# Altium schematic symbol library VNH5019A-E.SchLib: 1 symbol
Pins are listed as number, name and electrical type; pins without a type are passive.

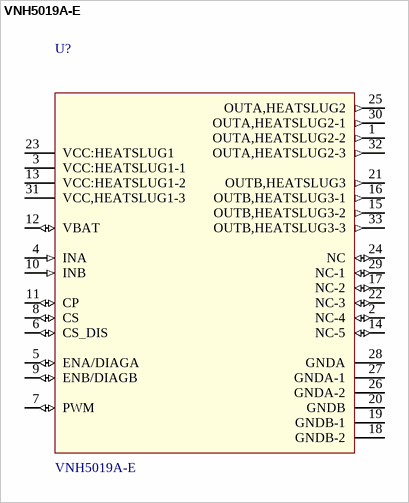
[diagram p0: symbol VNH5019A-E]

## VNH5019A-E
designator U?
VNH5019A Series 24 V 30 A Fully Integrated H-Bridge Motor Driver-MultiPowerSO-30; MF: STMicroelectronics; Package: SOP-30 STMicroelectronics; Price: None; Availability: Unavailable; MP: VNH5019A-E; SnapEDA_Link: https://www.snapeda.com/parts/VNH5019A-E/STMicroelectronics/view-part/?ref=snap; Value: *
footprint IC_VNH5019ATR-E
pins: 1 OUTA,HEATSLUG2-2 (out), 2 NC-4 (io), 3 VCC:HEATSLUG1-1 (power), 4 INA (in), 5 ENA/DIAGA (io), 6 CS_DIS (io), 7 PWM (io), 8 CS (io), 9 ENB/DIAGB (io), 10 INB (in), 11 CP (io), 12 VBAT (io), 13 VCC:HEATSLUG1-2 (power), 14 NC-5 (io), 15 OUTB,HEATSLUG3-2 (out), 16 OUTB,HEATSLUG3-1 (out), 17 NC-2 (io), 18 GNDB-2 (power), 19 GNDB-1 (power), 20 GNDB (power), 21 OUTB,HEATSLUG3 (out), 22 NC-3 (io), 23 VCC:HEATSLUG1 (power), 24 NC (io), 25 OUTA,HEATSLUG2 (out), 26 GNDA-2 (power), 27 GNDA-1 (power), 28 GNDA (power), 29 NC-1 (io), 30 OUTA,HEATSLUG2-1 (out), 31 VCC,HEATSLUG1-3 (power), 32 OUTA,HEATSLUG2-3 (out), 33 OUTB,HEATSLUG3-3 (out)